# EAGLE library part SD5000 (library 1A-meinLib)
Quad N-Channel lateral DMOS Switch, 20V, t-on: 1ns, reverse Capacitance: 0.2pF
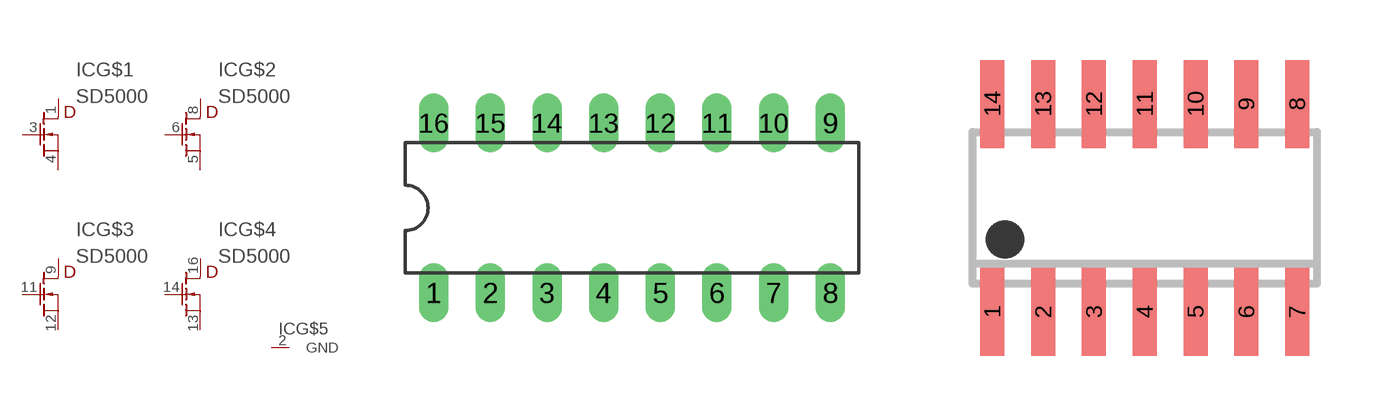
[diagram p77: symbol with the pads of DIL16; footprints DIL16, SO14]

Designator prefix IC; gates G$1=DMOS-SWITCH G$2=DMOS-SWITCH G$3=DMOS-SWITCH G$4=DMOS-SWITCH G$5=GND

## SD5000  [DIL16]
1  G$1:D  pas
2  G$5:GND  pwr
3  G$1:G  in
4  G$1:S  pas
5  G$2:S  pas
6  G$2:G  in
8  G$2:D  pas
9  G$3:D  pas
11  G$3:G  in
12  G$3:S  pas
13  G$4:S  pas
14  G$4:G  in
16  G$4:D  pas

## SD5000SO14  [SO14]
1  G$2:S  pas
2  G$5:GND  pwr
3  G$2:G  in
4  G$2:D  pas
5  G$3:D  pas
6  G$3:G  in
7  G$3:S  pas
8  G$4:S  pas
9  G$4:G  in
10  G$4:D  pas
11  G$1:D  pas
12  G$1:G  in
14  G$1:S  pas

## Footprint DIL16 (pad centres in mm)
Dual In Line Package
drill 0.813 long: 1 -8.89,-3.81; 2 -6.35,-3.81; 3 -3.81,-3.81; 4 -1.27,-3.81; 5 1.27,-3.81; 6 3.81,-3.81; 7 6.35,-3.81; 8 8.89,-3.81; 9 8.89,3.81; 10 6.35,3.81; 11 3.81,3.81; 12 1.27,3.81; 13 -1.27,3.81; 14 -3.81,3.81; 15 -6.35,3.81; 16 -8.89,3.81

## Footprint SO14 (pad centres in mm)
Small Outline Package 14
smd 0.6 x 2.2: 1 -3.81,-2.6; 2 -2.54,-2.6; 3 -1.27,-2.6; 4 0,-2.6; 5 1.27,-2.6; 6 2.54,-2.6; 7 3.81,-2.6; 8 3.81,2.6; 9 2.54,2.6; 10 1.27,2.6; 11 0,2.6; 12 -1.27,2.6; 13 -2.54,2.6; 14 -3.81,2.6